# Altium schematic symbol library SnapEDAsch.SchLib: 1 symbol
Pins are listed as number, name and electrical type; pins without a type are passive.

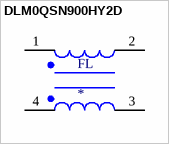
[diagram p0: symbol DLM0QSN900HY2D]

## DLM0QSN900HY2D
designator FL
Common Mode Chokes Dual 90Ohm 100MHz 0.05A 5Ohm DCR SMD Automotive T/R; MP: DLM0QSN900HY2D; MF: Murata; Price: None; SnapEDA_Link: https://www.snapeda.com/parts/DLM0QSN900HY2D/Murata/view-part/1503329/?ref=snap; Value: *; Availability: Unavailable; Package: None
footprint FIL_DLM0QSN900HY2D
pins: 1, 2, 3, 4